# Altium integrated library Xilinx XCF.IntLib: 9 symbols
Pins are listed as number, name and electrical type; pins without a type are passive.

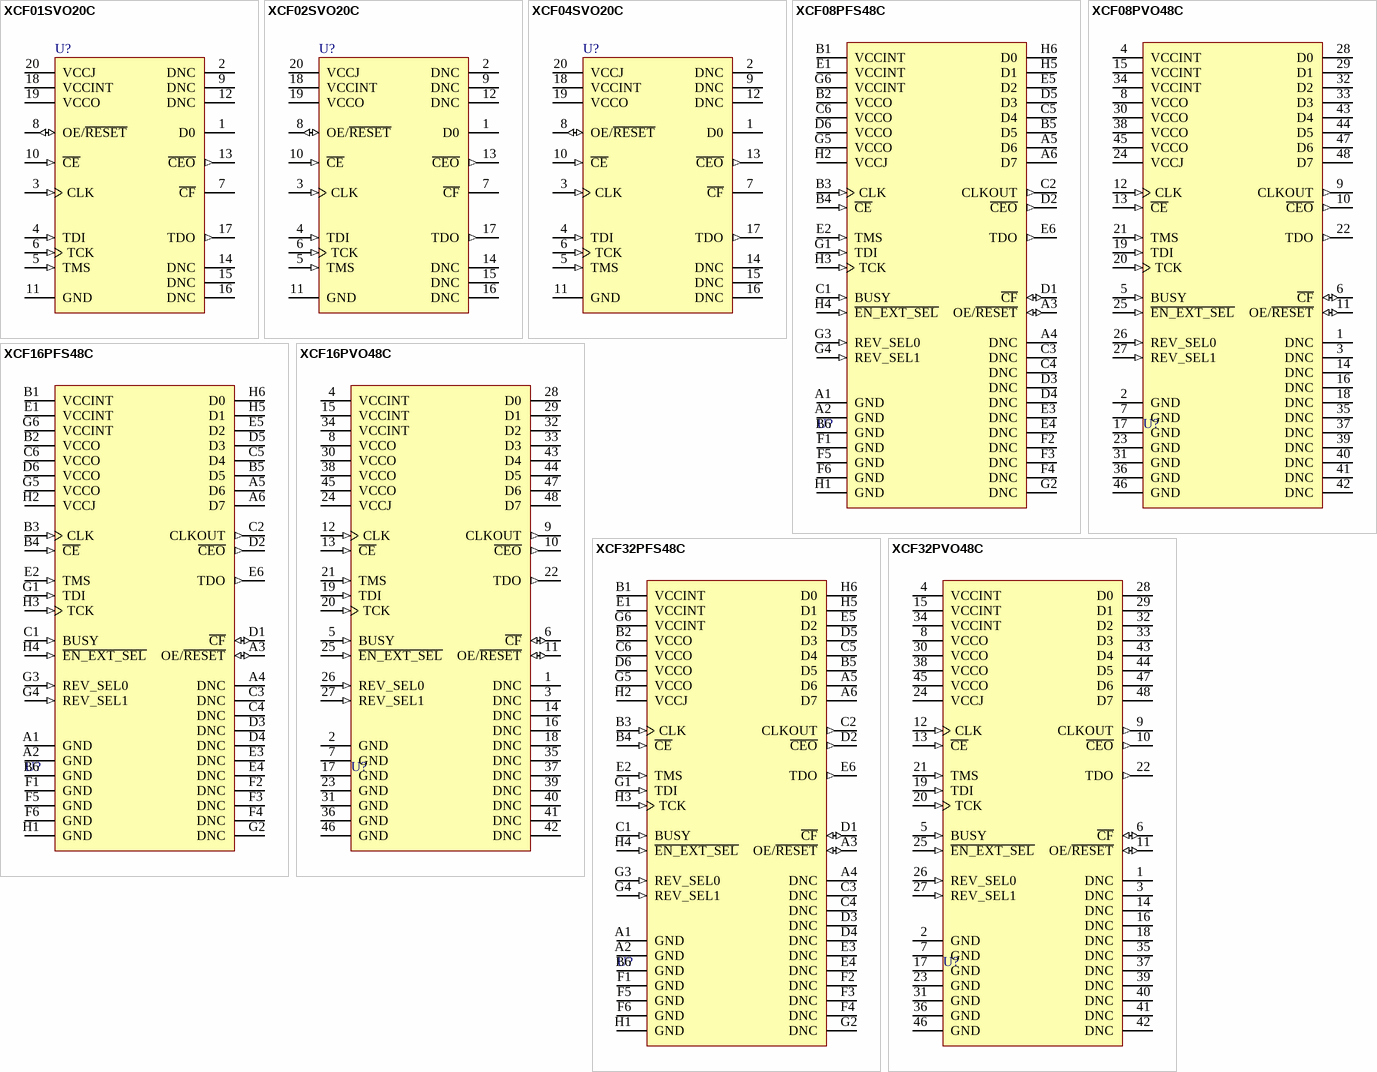
[diagram p0: symbols XCF01SVO20C to XCF32PVO48C]

## XCF01SVO20C
designator U?
XCF00S Series, Platform Flash In-System Programmable Configuration 3.3V PROM, 20-Pin TSOP, 1-Megabit, Commercial Grade; PackageDocument: ver1.0, May-2003; Published: 17-Sep-2003; DatasheetDocument: ver2.3, May-2004; PackageReference: VO20; Publisher: Altium Limited; Code_JEDEC: MO-153-AC
footprint VO20 (20-Pin Thin Small-Outline Package (VO20))
pins: 1 D0 (hiz) "Serial Data Output, for configuring an FPGA in serial mode.", 2 DNC "Leave Unconnected.", 3 CLK (in) "Configuration Clock Input.", 4 TDI (in) "JTAG Serial Data Input.", 5 TMS (in) "JTAG Mode Select Input.", 6 TCK (in) "JTAG Test Clock Input.", 7 ~{CF} (oc) "Configuration Pulse (Open-Drain Output).", 8 OE/~{RESET} (io) "Output Enable/Reset (Open-Drain I/O).", 9 DNC "Leave Unconnected.", 10 ~{CE} (in) "Chip Enable Input.", 11 GND (power) "Ground", 12 DNC "Leave Unconnected.", 13 ~{CEO} (out) "Chip Enable Output, connects to the CE input of the next PROM in the chain.", 14 DNC "Leave Unconnected.", 15 DNC "Leave Unconnected.", 16 DNC "Leave Unconnected.", 17 TDO (out) "JTAG Serial Data Output.", 18 VCCINT (power) "+3.3V Supply for internal logic.", 19 VCCO (power) "+3.3V, 2.5V, or 1.8V I/O Supply.", 20 VCCJ (power) "+3.3V or 2.5V JTAG Signals I/O Supply."

## XCF02SVO20C
designator U?
XCF00S Series, Platform Flash In-System Programmable Configuration 3.3V PROM, 20-Pin TSOP, 2-Megabit, Commercial Grade; PackageDocument: ver1.0, May-2003; Published: 17-Sep-2003; DatasheetDocument: ver2.3, May-2004; PackageReference: VO20; Publisher: Altium Limited; Code_JEDEC: MO-153-AC
footprint VO20 (20-Pin Thin Small-Outline Package (VO20))
pins: 1 D0 (hiz) "Serial Data Output, for configuring an FPGA in serial mode.", 2 DNC "Leave Unconnected.", 3 CLK (in) "Configuration Clock Input.", 4 TDI (in) "JTAG Serial Data Input.", 5 TMS (in) "JTAG Mode Select Input.", 6 TCK (in) "JTAG Test Clock Input.", 7 ~{CF} (oc) "Configuration Pulse (Open-Drain Output).", 8 OE/~{RESET} (io) "Output Enable/Reset (Open-Drain I/O).", 9 DNC "Leave Unconnected.", 10 ~{CE} (in) "Chip Enable Input.", 11 GND (power) "Ground", 12 DNC "Leave Unconnected.", 13 ~{CEO} (out) "Chip Enable Output, connects to the CE input of the next PROM in the chain.", 14 DNC "Leave Unconnected.", 15 DNC "Leave Unconnected.", 16 DNC "Leave Unconnected.", 17 TDO (out) "JTAG Serial Data Output.", 18 VCCINT (power) "+3.3V Supply for internal logic.", 19 VCCO (power) "+3.3V, 2.5V, or 1.8V I/O Supply.", 20 VCCJ (power) "+3.3V or 2.5V JTAG Signals I/O Supply."

## XCF04SVO20C
designator U?
XCF00S Series, Platform Flash In-System Programmable Configuration 3.3V PROM, 20-Pin TSOP, 4-Megabit, Commercial Grade; PackageDocument: ver1.0, May-2003; Published: 17-Sep-2003; DatasheetDocument: ver2.3, May-2004; PackageReference: VO20; Publisher: Altium Limited; Code_JEDEC: MO-153-AC
footprint VO20 (20-Pin Thin Small-Outline Package (VO20))
pins: 1 D0 (hiz) "Serial Data Output, for configuring an FPGA in serial mode.", 2 DNC "Leave Unconnected.", 3 CLK (in) "Configuration Clock Input.", 4 TDI (in) "JTAG Serial Data Input.", 5 TMS (in) "JTAG Mode Select Input.", 6 TCK (in) "JTAG Test Clock Input.", 7 ~{CF} (oc) "Configuration Pulse (Open-Drain Output).", 8 OE/~{RESET} (io) "Output Enable/Reset (Open-Drain I/O).", 9 DNC "Leave Unconnected.", 10 ~{CE} (in) "Chip Enable Input.", 11 GND (power) "Ground", 12 DNC "Leave Unconnected.", 13 ~{CEO} (out) "Chip Enable Output, connects to the CE input of the next PROM in the chain.", 14 DNC "Leave Unconnected.", 15 DNC "Leave Unconnected.", 16 DNC "Leave Unconnected.", 17 TDO (out) "JTAG Serial Data Output.", 18 VCCINT (power) "+3.3V Supply for internal logic.", 19 VCCO (power) "+3.3V, 2.5V, or 1.8V I/O Supply.", 20 VCCJ (power) "+3.3V or 2.5V JTAG Signals I/O Supply."

## XCF08PFS48C
designator U?
XCF00P Series, Platform Flash In-System Programmable Configuration 1.8V PROM, 48 Ball BGA, 8-Megabit, Commercial Grade; PackageDocument: ver1.0, May-2003; Published: 17-Dec-2003; DatasheetDocument: ver2.3, May-2004; PackageReference: FS48; Publisher: Altium Limited; Code_JEDEC: MO-210-AD
footprint FS48 (48-Ball Chip Scale Ball Grid Array 0.8mm Pitch (FS48))
3D model XCF08P-FS48 (48-Ball Chip Scale Ball Grid Array 0.8mm Pitch (FS48))
pins: A1 GND (power), A2 GND (power), A3 OE/~{RESET} (io), A4 DNC, A5 D6 (hiz), A6 D7 (hiz), B1 VCCINT (power), B2 VCCO (power), B3 CLK (in), B4 ~{CE} (in), B5 D5 (hiz), B6 GND (power), C1 BUSY (in), C2 CLKOUT (out), C3 DNC, C4 DNC, C5 D4 (hiz), C6 VCCO (power), D1 ~{CF} (io), D2 ~{CEO} (out), D3 DNC, D4 DNC, D5 D3 (hiz), D6 VCCO (power), E1 VCCINT (power), E2 TMS (in), E3 DNC, E4 DNC, E5 D2 (hiz), E6 TDO (out), F1 GND (power), F2 DNC, F3 DNC, F4 DNC, F5 GND (power), F6 GND (power), G1 TDI (in), G2 DNC, G3 REV_SEL0 (in), G4 REV_SEL1 (in), G5 VCCO (power), G6 VCCINT (power), H1 GND (power), H2 VCCJ (power), H3 TCK (in), H4 ~{EN_EXT_SEL} (in), H5 D1 (hiz), H6 D0 (hiz)

## XCF08PVO48C
designator U?
XCF00P Series, Platform Flash In-System Programmable Configuration 1.8V PROM, 48-Pin TSSOP, 8-Megabit, Commercial Grade; PackageDocument: ver1.0, Nov-2003; Published: 17-Dec-2003; DatasheetDocument: ver2.3, May-2004; PackageReference: VO48; Publisher: Altium Limited; Code_JEDEC: MO-142-DD
footprint VO48 (48-Pin TSSOP, 0.5mm Pitch (VO48))
pins: 1 DNC, 2 GND (power), 3 DNC, 4 VCCINT (power), 5 BUSY (in), 6 ~{CF} (io), 7 GND (power), 8 VCCO (power), 9 CLKOUT (out), 10 ~{CEO} (out), 11 OE/~{RESET} (io), 12 CLK (in), 13 ~{CE} (in), 14 DNC, 15 VCCINT (power), 16 DNC, 17 GND (power), 18 DNC, 19 TDI (in), 20 TCK (in), 21 TMS (in), 22 TDO (out), 23 GND (power), 24 VCCJ (power), 25 ~{EN_EXT_SEL} (in), 26 REV_SEL0 (in), 27 REV_SEL1 (in), 28 D0 (hiz), 29 D1 (hiz), 30 VCCO (power), 31 GND (power), 32 D2 (hiz), 33 D3 (hiz), 34 VCCINT (power), 35 DNC, 36 GND (power), 37 DNC, 38 VCCO (power), 39 DNC, 40 DNC, 41 DNC, 42 DNC, 43 D4 (hiz), 44 D5 (hiz), 45 VCCO (power), 46 GND (power), 47 D6 (hiz), 48 D7 (hiz)

## XCF16PFS48C
designator U?
XCF00P Series, Platform Flash In-System Programmable Configuration 1.8V PROM, 48 Ball BGA, 16-Megabit, Commercial Grade; PackageDocument: ver1.0, May-2003; Published: 17-Dec-2003; DatasheetDocument: ver2.3, May-2004; PackageReference: FS48; Publisher: Altium Limited; Code_JEDEC: MO-210-AD
footprint FS48 (48-Ball Chip Scale Ball Grid Array 0.8mm Pitch (FS48))
3D model XCF16P-FS48 (48-Ball Chip Scale Ball Grid Array 0.8mm Pitch (FS48))
pins: A1 GND (power), A2 GND (power), A3 OE/~{RESET} (io), A4 DNC, A5 D6 (hiz), A6 D7 (hiz), B1 VCCINT (power), B2 VCCO (power), B3 CLK (in), B4 ~{CE} (in), B5 D5 (hiz), B6 GND (power), C1 BUSY (in), C2 CLKOUT (out), C3 DNC, C4 DNC, C5 D4 (hiz), C6 VCCO (power), D1 ~{CF} (io), D2 ~{CEO} (out), D3 DNC, D4 DNC, D5 D3 (hiz), D6 VCCO (power), E1 VCCINT (power), E2 TMS (in), E3 DNC, E4 DNC, E5 D2 (hiz), E6 TDO (out), F1 GND (power), F2 DNC, F3 DNC, F4 DNC, F5 GND (power), F6 GND (power), G1 TDI (in), G2 DNC, G3 REV_SEL0 (in), G4 REV_SEL1 (in), G5 VCCO (power), G6 VCCINT (power), H1 GND (power), H2 VCCJ (power), H3 TCK (in), H4 ~{EN_EXT_SEL} (in), H5 D1 (hiz), H6 D0 (hiz)

## XCF16PVO48C
designator U?
XCF00P Series, Platform Flash In-System Programmable Configuration 1.8V PROM, 48-Pin TSSOP, 16-Megabit, Commercial Grade; PackageDocument: ver1.0, Nov-2003; Published: 17-Dec-2003; DatasheetDocument: ver2.3, May-2004; PackageReference: VO48; Publisher: Altium Limited; Code_JEDEC: MO-142-DD
footprint VO48 (48-Pin TSSOP, 0.5mm Pitch (VO48))
pins: 1 DNC, 2 GND (power), 3 DNC, 4 VCCINT (power), 5 BUSY (in), 6 ~{CF} (io), 7 GND (power), 8 VCCO (power), 9 CLKOUT (out), 10 ~{CEO} (out), 11 OE/~{RESET} (io), 12 CLK (in), 13 ~{CE} (in), 14 DNC, 15 VCCINT (power), 16 DNC, 17 GND (power), 18 DNC, 19 TDI (in), 20 TCK (in), 21 TMS (in), 22 TDO (out), 23 GND (power), 24 VCCJ (power), 25 ~{EN_EXT_SEL} (in), 26 REV_SEL0 (in), 27 REV_SEL1 (in), 28 D0 (hiz), 29 D1 (hiz), 30 VCCO (power), 31 GND (power), 32 D2 (hiz), 33 D3 (hiz), 34 VCCINT (power), 35 DNC, 36 GND (power), 37 DNC, 38 VCCO (power), 39 DNC, 40 DNC, 41 DNC, 42 DNC, 43 D4 (hiz), 44 D5 (hiz), 45 VCCO (power), 46 GND (power), 47 D6 (hiz), 48 D7 (hiz)

## XCF32PFS48C
designator U?
XCF00P Series, Platform Flash In-System Programmable Configuration 1.8V PROM, 48 Ball BGA, 32-Megabit, Commercial Grade; PackageDocument: ver1.0, May-2003; Published: 17-Dec-2003; DatasheetDocument: ver2.3, May-2004; PackageReference: FS48; Publisher: Altium Limited; Code_JEDEC: MO-210-AD
footprint FS48 (48-Ball Chip Scale Ball Grid Array 0.8mm Pitch (FS48))
3D model XCF32P-FS48 (48-Ball Chip Scale Ball Grid Array 0.8mm Pitch (FS48))
pins: A1 GND (power), A2 GND (power), A3 OE/~{RESET} (io), A4 DNC, A5 D6 (hiz), A6 D7 (hiz), B1 VCCINT (power), B2 VCCO (power), B3 CLK (in), B4 ~{CE} (in), B5 D5 (hiz), B6 GND (power), C1 BUSY (in), C2 CLKOUT (out), C3 DNC, C4 DNC, C5 D4 (hiz), C6 VCCO (power), D1 ~{CF} (io), D2 ~{CEO} (out), D3 DNC, D4 DNC, D5 D3 (hiz), D6 VCCO (power), E1 VCCINT (power), E2 TMS (in), E3 DNC, E4 DNC, E5 D2 (hiz), E6 TDO (out), F1 GND (power), F2 DNC, F3 DNC, F4 DNC, F5 GND (power), F6 GND (power), G1 TDI (in), G2 DNC, G3 REV_SEL0 (in), G4 REV_SEL1 (in), G5 VCCO (power), G6 VCCINT (power), H1 GND (power), H2 VCCJ (power), H3 TCK (in), H4 ~{EN_EXT_SEL} (in), H5 D1 (hiz), H6 D0 (hiz)

## XCF32PVO48C
designator U?
XCF00P Series, Platform Flash In-System Programmable Configuration 1.8V PROM, 48-Pin TSSOP, 32-Megabit, Commercial Grade; PackageDocument: ver1.0, Nov-2003; Published: 17-Dec-2003; DatasheetDocument: ver2.3, May-2004; PackageReference: VO48; Publisher: Altium Limited; Code_JEDEC: MO-142-DD
footprint VO48 (48-Pin TSSOP, 0.5mm Pitch (VO48))
pins: 1 DNC, 2 GND (power), 3 DNC, 4 VCCINT (power), 5 BUSY (in), 6 ~{CF} (io), 7 GND (power), 8 VCCO (power), 9 CLKOUT (out), 10 ~{CEO} (out), 11 OE/~{RESET} (io), 12 CLK (in), 13 ~{CE} (in), 14 DNC, 15 VCCINT (power), 16 DNC, 17 GND (power), 18 DNC, 19 TDI (in), 20 TCK (in), 21 TMS (in), 22 TDO (out), 23 GND (power), 24 VCCJ (power), 25 ~{EN_EXT_SEL} (in), 26 REV_SEL0 (in), 27 REV_SEL1 (in), 28 D0 (hiz), 29 D1 (hiz), 30 VCCO (power), 31 GND (power), 32 D2 (hiz), 33 D3 (hiz), 34 VCCINT (power), 35 DNC, 36 GND (power), 37 DNC, 38 VCCO (power), 39 DNC, 40 DNC, 41 DNC, 42 DNC, 43 D4 (hiz), 44 D5 (hiz), 45 VCCO (power), 46 GND (power), 47 D6 (hiz), 48 D7 (hiz)